# Altium footprint library usb_hinrose.PCBLIB: 9 footprints
Each footprint in its own frame and in the unit in brackets; x right, y up, seen from the top. Pads: shape width x height; smd on the part's side, far side on the other; paste and mask are expansions set on the pad; w line width, h text height; cw(c..) or ccw(c..) is an arc to the next point about the centre after c.
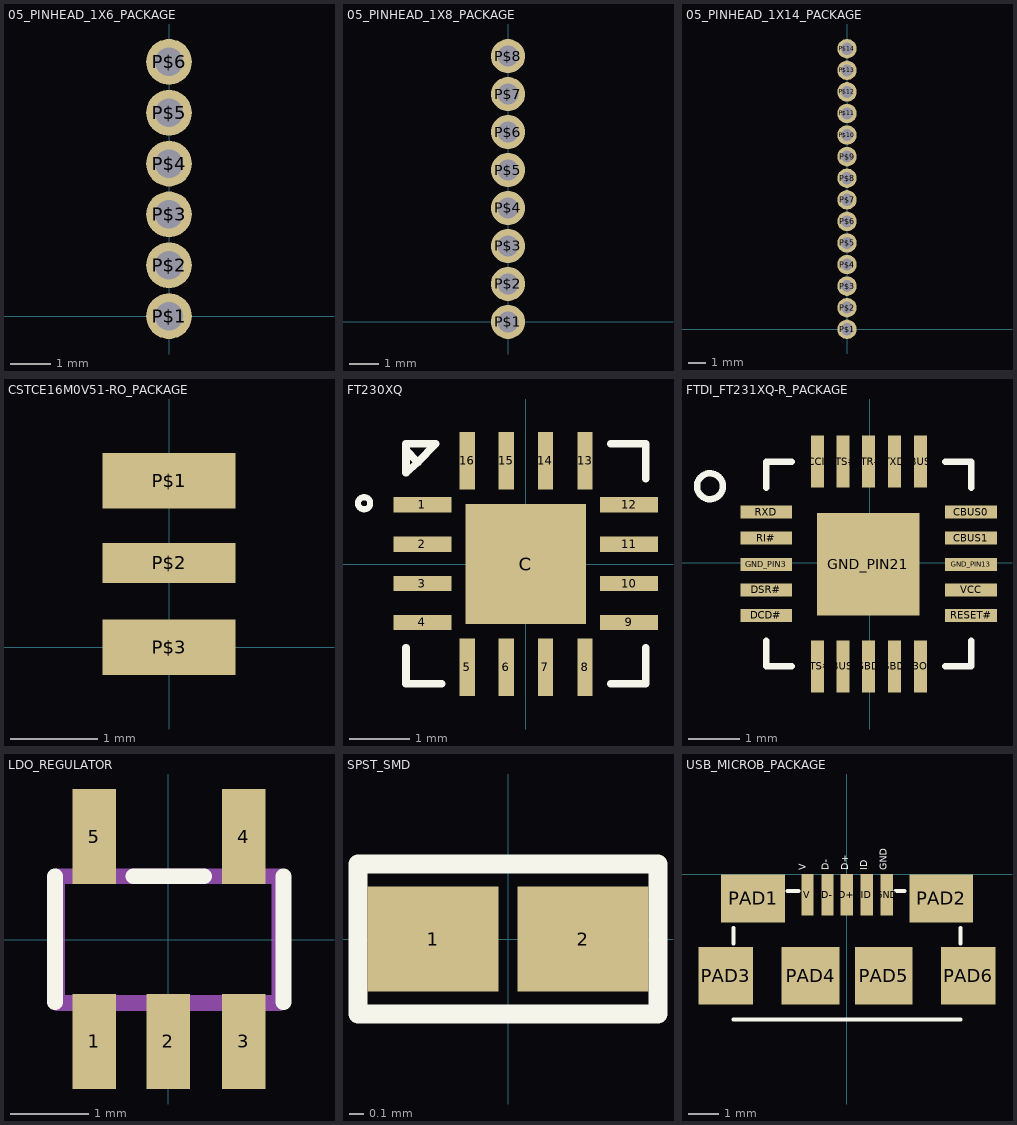
[diagram p0: the footprints below, top view; thin cyan lines are the x and y axes]

## 05_PINHEAD_1X6_PACKAGE [mil]
pads (6):
  round 45 hole 28: P$1(0,0) P$2(0,50) P$3(0,100) P$4(0,150) P$5(0,200) P$6(0,250)

## 05_PINHEAD_1X8_PACKAGE [mil]
pads (8):
  round 45 hole 28: P$1(0,0) P$2(0,50) P$3(0,100) P$4(0,150) P$5(0,200) P$6(0,250) P$7(0,300) P$8(0,350)

## 05_PINHEAD_1X14_PACKAGE [mil]
pads (14):
  round 45 hole 28: P$1(0,0) P$2(0,50) P$3(0,100) P$4(0,150) P$5(0,200) P$6(0,250) P$7(0,300) P$8(0,350) P$9(0,400) P$10(0,450) P$11(0,500) P$12(0,550) P$13(0,600) P$14(0,650)

## CSTCE16M0V51-RO_PACKAGE [mil]
pads (3):
  rect 60x25 smd: P$1(0,75) P$3(0,0)
  rect 60x18 smd: P$2(0,38)

## FT230XQ [mil]
pads (17):
  rect 38x10 smd: 1(-67.91,39) 2(-67.91,13) 3(-67.91,-12.8) 4(-67.91,-38.39) 9(68,-38.39) 10(68,-12.8) 11(68,13) 12(68,39)
  rect 10x38 smd: 5(-38.39,-67.91) 6(-12.8,-67.91) 7(13,-67.91) 8(39,-67.91) 13(39,68) 14(13,68) 15(-12.8,68) 16(-38.39,68)
  rect 79x79 smd: C(0,0)
Top Overlay:
  circle w4: c-106.3,40 r4
  lines w5: -78.74,-55.12 -78.74,-78.74 -55.12,-78.74 ; 56,-78.74 79,-78.74 79,-55.12 ; 56,79 79,79 79,56 ; -78.74,75 -78.74,60 -70.87,67 ; -78.74,75 -78.74,79 -59.06,79 -70.87,67 ; -78.74,75 -70.87,67

## FTDI_FT231XQ-R_PACKAGE [mil]
pads (21):
  rect 10x40 smd: 3V3OUT(39,-80) CBUS2(-20.94,-80) CBUS3(39,78) CTS#(-40.63,-80) DTR#(-1.26,78) RTS#(-20.94,78) TXD(19,78) USBDM(19,-80) USBDP(-1.26,-80) VCCIO(-40.63,78)
  rect 40x10 smd: CBUS0(78,39) CBUS1(78,19) DCD#(-80,-40.63) DSR#(-80,-20.94) GND_PIN3(-80,-1.26) GND_PIN13(78,-1.26) RESET#(78,-40.63) RI#(-80,19) RXD(-80,39) VCC(78,-20.94)
  rect 79x79 smd: GND_PIN21(-1.26,-1.26)
Top Overlay:
  circle w5: c-123.46,59 r10
  lines w5: -80,-60.31 -80,-80 -60.31,-80 ; -80,58 -80,78 -60.31,78 ; 58,-80 78,-80 78,-60.31 ; 58,78 78,78 78,58

## LDO_REGULATOR [mil]
pads (5):
  rect 22x48 smd: 1(-37.4,-51.19) 2(0,-51.19) 3(38,-51.19) 4(38,52) 5(-37.4,52)
Top Overlay:
  lines w8: -57.09,-31.5 -57.09,32 ; -17.72,32 18,32 ; 58,-31.5 58,32
Mechanical 16:
  rectangle: -47.24,-59.06 -27.56,-33.46
  rectangle: -9.84,-59.06 10,-33.46
  rectangle: 28,-59.06 48,-33.46
  rectangle: 28,34 48,60
  rectangle: -47.24,34 -27.56,60
  lines w8: -56,-31.91 56,-31.91 56,32 -56,32 -56,-31.91

## SPST_SMD [mil]
pads (2):
  rect 35x28 smd: 1(-20,0) 2(20,0)
Top Overlay:
  lines w5: -40,-20 40,-20 40,20 -40,20 -40,-20

## USB_MICROB_PACKAGE [mil]
pads (11):
  rect 16x54 smd: D+(0,-26.77) D-(-25.2,-26.77) GND(52,-26.77) ID(26,-26.77) V(-51.18,-26.77)
  rect 83x63 smd: PAD1(-122.05,-31.5) PAD2(123,-31.5)
  rect 71x75 smd: PAD3(-157.48,-131.89) PAD6(158,-131.89)
  rect 75x75 smd: PAD4(-47.24,-131.89) PAD5(48,-131.89)
Top Overlay:
  lines w5: -147.64,-188.98 148,-188.98 ; -147.64,-90 -147.64,-70 ; -77.5,-21.65 -62.5,-21.65 ; 63,-21.65 75,-21.65 ; 148,-90 148,-70
  text "GND" at 55,5 h15.5
  text "ID" at 30,5 h15.5
  text "D+" at 5,5 h15.5
  text "D-" at -20,5 h15.5
  text "V" at -50,5 h15.5